# Altium footprint library NEW_PCB_2021-12-20.PcbLib: 1 footprints
Each footprint in its own frame and in the unit in brackets; x right, y up, seen from the top. Pads: shape width x height; smd on the part's side, far side on the other; paste and mask are expansions set on the pad; w line width, h text height; cw(c..) or ccw(c..) is an arc to the next point about the centre after c.
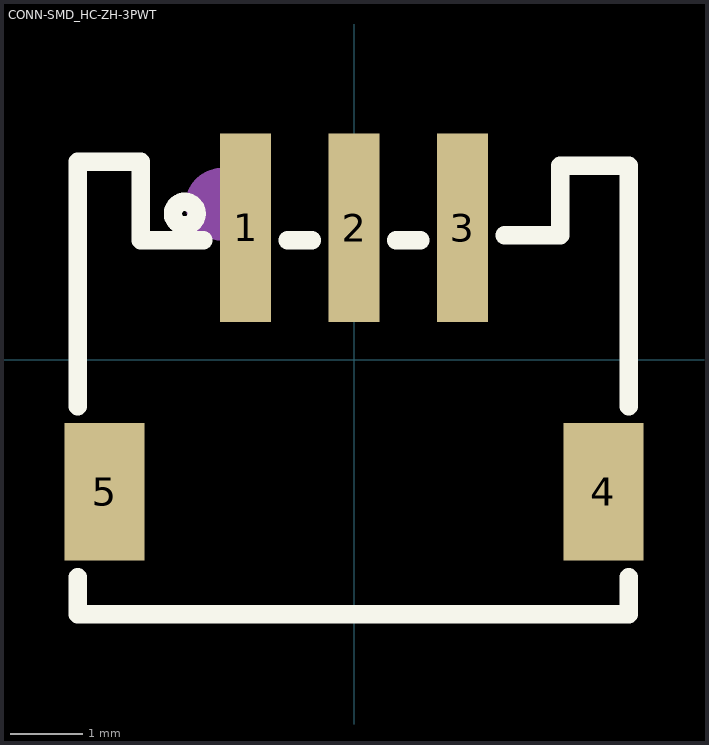
[diagram p0: the footprint, top view; thin cyan lines are the x and y axes]

## CONN-SMD_HC-ZH-3PWT [mm]
pads (5):
  rect 0.7x2.6 smd: 1(-1.5,1.825) 2(0,1.825) 3(1.5,1.825)
  rect 1.1x1.9 smd: 4(3.45,-1.825) 5(-3.45,-1.825)
Top Overlay:
  circle w0.254: c-2.34,2.02 r0.164
  lines w0.254: -3.82,-3.006 -3.82,-3.52 3.8,-3.52 3.8,-3.006 ; -3.82,-0.644 -3.82,2.74 -2.95,2.74 -2.95,1.65 -2.081,1.65 ; -0.919,1.65 -0.581,1.65 ; 0.581,1.65 0.919,1.65 ; 2.081,1.72 2.85,1.72 2.85,2.68 3.8,2.68 3.8,-0.6 3.8,-0.644
Mechanical 15:
  circle w0.5: c-1.83,2.15 r0.25